# Altium footprint library V1.PcbLib: 22 footprints (part 1 of 2)
Each footprint in its own frame and in the unit in brackets; x right, y up, seen from the top. Pads: shape width x height; smd on the part's side, far side on the other; paste and mask are expansions set on the pad; w line width, h text height; cw(c..) or ccw(c..) is an arc to the next point about the centre after c.
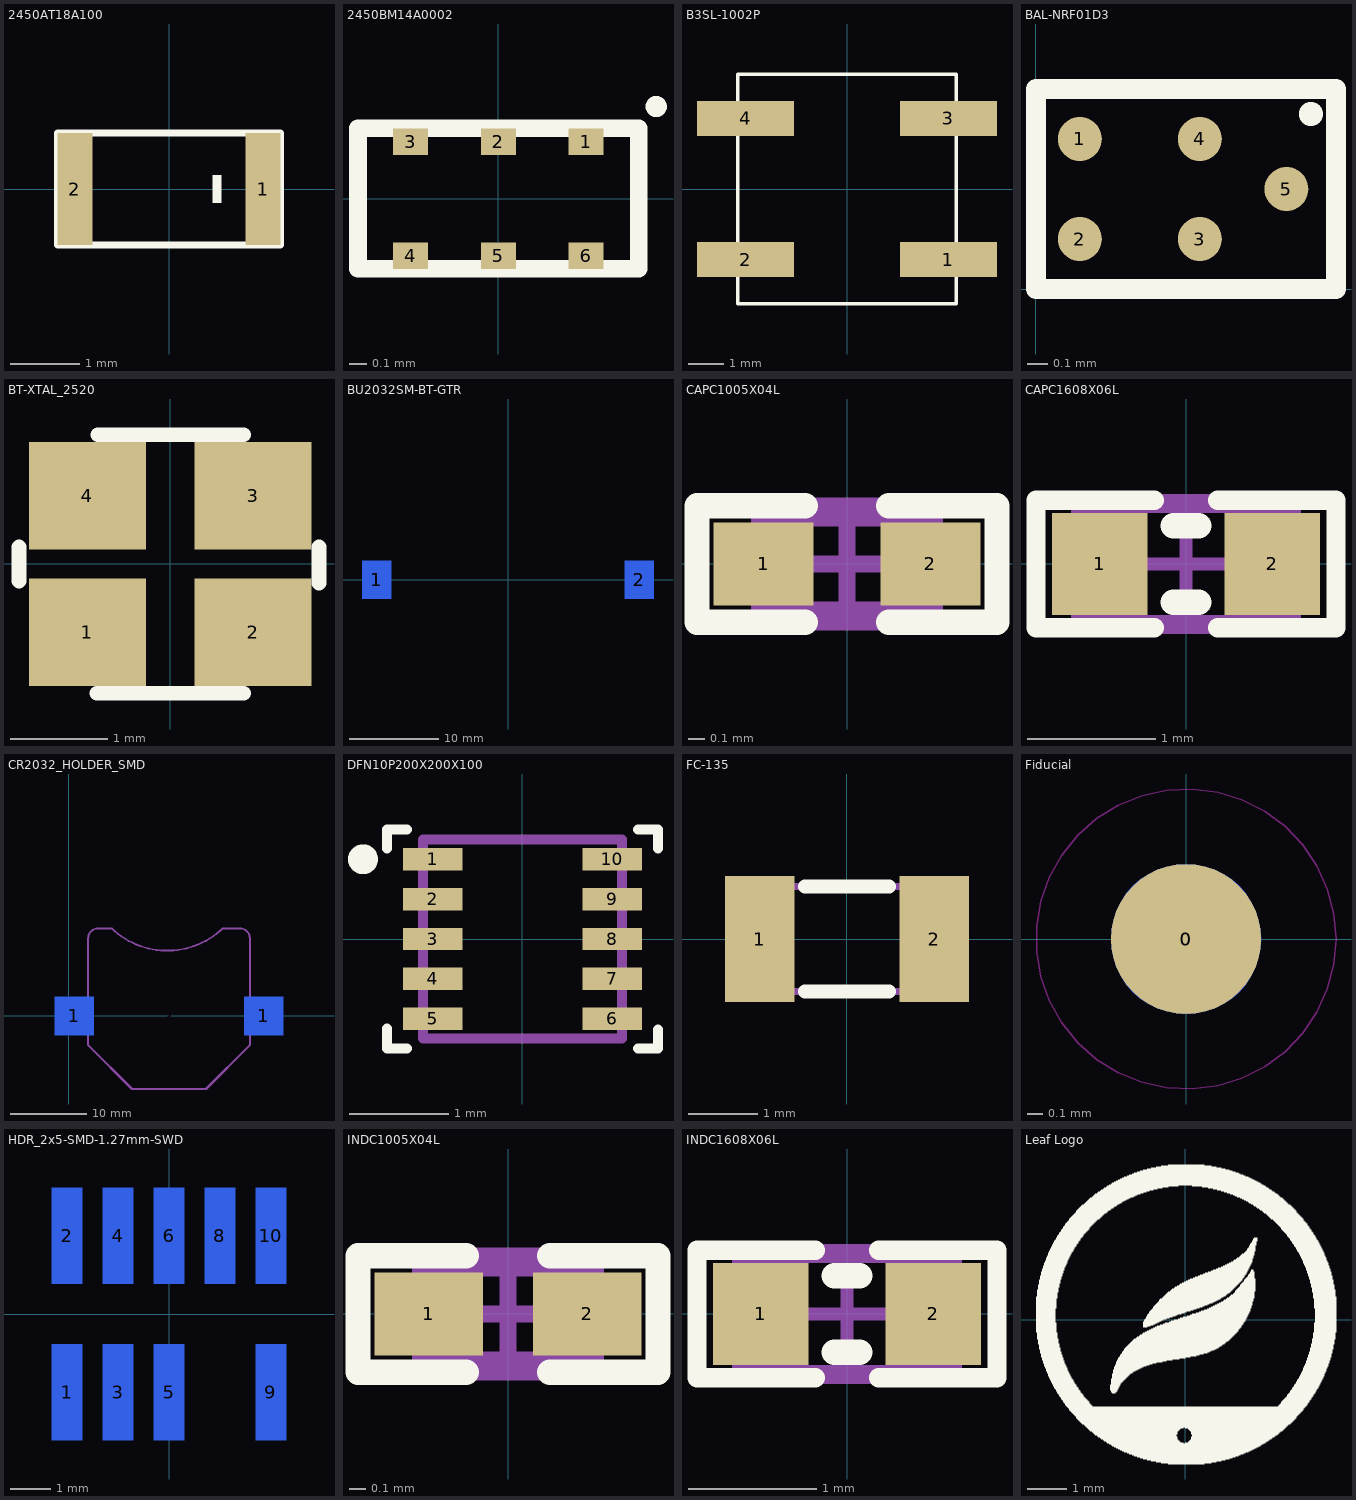
[diagram p0: the footprints below, top view; thin cyan lines are the x and y axes]

## 2450AT18A100 [mm]
pads (2):
  rect 0.5x1.6 smd: 1(1.35,0) 2(-1.35,0)
Top Overlay:
  rectangle: 0.625,-0.2 0.75,0.2
  lines w0.1: -1.6,-0.8 -1.6,0.8 1.6,0.8 1.6,-0.8 -1.6,-0.8
3D body: height 1.25, standoff 0, extent -1,-0.8 1,0.8
3D body: height 1.3, standoff 0, extent -1.7,-0.9 -1,0.9
3D body: height 1.3, standoff 0, extent 1,-0.9 1.65,0.9

## 2450BM14A0002 [mm]
pads (6):
  rect 0.2x0.15 smd: 1(0.5,0.325) 2(0,0.325) 3(-0.5,0.325) 4(-0.5,-0.325) 5(0,-0.325) 6(0.5,-0.325)
Top Overlay:
  circle w0.1: c0.9,0.525 r0.01
  lines w0.1: -0.8,-0.4 -0.8,0.4 0.8,0.4 0.8,-0.4 -0.8,-0.4
3D body: height 0.6, standoff 0, extent -0.8,-0.4 0.8,0.4

## B3SL-1002P [mm]
pads (4):
  rect 2.75x1 smd: 1(2.875,-2) 2(-2.875,-2) 3(2.875,2) 4(-2.875,2)
Top Overlay:
  lines w0.1: -3.1,-3.25 3.1,-3.25 3.1,3.25 -3.1,3.25 -3.1,-3.25
3D body: height 2.5, standoff 0, extent -3.125,-3.25 3.125,3.25
3D body: height 3.4, standoff 2.5, extent -1.24,-1.248 1.25,1.248

## BAL-NRF01D3 [mm]
pads (5):
  round 0.22 smd: 1(0.219,0.75) 2(0.219,0.25) 3(0.819,0.25) 4(0.819,0.75) 5(1.252,0.5)
Top Overlay:
  circle w0.1: c1.375,0.875 r0.01
  lines w0.1: 0,0 0,1 1.5,1 1.5,0 0,0
3D body: height 0.43, standoff 0, extent 0,0 1.5,1

## BT-XTAL_2520 [mm]
pads (4):
  rect 1.2x1.1 smd: 1(-0.85,-0.7) 2(0.85,-0.7) 3(0.85,0.7) 4(-0.85,0.7)
Top Overlay:
  lines w0.152: -1.55,-0.175 -1.55,0.175 ; -0.75,-1.325 0.75,-1.325 ; -0.74,1.325 0.75,1.325 ; 1.525,-0.195 1.525,0.175
3D body: height 0.56, standoff 0.15, extent -1.05,-0.8 1.05,0.8
3D body: height 0.56, standoff 0, extent -1.25,-1 1.27,1

## BU2032SM-BT-GTR [mm]
pads (2):
  rect 3.2x4.2 smd far side: 1(-14.65,0) 2(14.65,0)
Bottom Overlay:
  lines w0.254: -15.25,5 -14.025,5 ; -14.625,4.4 -14.625,5.625 ; 14.125,5.375 15.35,5.375
3D body: height 5.3, standoff 0, extent -16,-8 16,8

## CAPC1005X04L [mm]
pads (2):
  rect 0.6x0.5 smd: 1(-0.5,0) 2(0.5,0)
Top Overlay:
  lines w0.152: -0.25,-0.35 -0.9,-0.35 -0.9,0.35 -0.25,0.35 ; 0.25,-0.35 0.9,-0.35 0.9,0.35 0.25,0.35
Mechanical 13:
  lines w0.1: -0.525,-0.275 0.525,-0.275 0.525,0.275 -0.525,0.275 -0.525,-0.275
Mechanical 15:
  lines w0.1: -0.275,0 0.275,0 ; 0,-0.275 0,0.275 ; -0.9,-0.35 -0.9,0.35 0.9,0.35 0.9,-0.35 -0.9,-0.35
3D body: height 0.5, standoff -0.01, extent -0.508,-0.254 0.508,0.254

## CAPC1608X06L [mm]
pads (2):
  rect 0.75x0.8 smd: 1(-0.675,0) 2(0.675,0)
Top Overlay:
  lines w0.152: -0.25,-0.5 -1.175,-0.5 -1.175,0.5 -0.25,0.5 ; 0.25,-0.5 1.175,-0.5 1.175,0.5 0.25,0.5
  lines w0.2: -0.1,-0.3 0.1,-0.3 ; -0.1,0.3 0.1,0.3
Mechanical 13:
  lines w0.1: -0.85,-0.45 -0.85,0.45 0.85,0.45 0.85,-0.45 -0.85,-0.45
Mechanical 15:
  lines w0.1: -0.45,0 0.45,0 ; 0,-0.45 0,0.45 ; -1.175,-0.5 1.175,-0.5 1.175,0.5 -1.175,0.5 -1.175,-0.5
3D body: height 0.8, standoff 0, extent -0.8,-0.43 0.8,0.43

## CR2032_HOLDER_SMD [mm]
pads (3):
  rect 5.08x5.08 smd far side: 1(0.731,0) 1(25.431,0)
  round 18 on Bottom Solder paste+0: 2(13.081,0)
Mechanical 3:
  lines w0.254: 8.636,-9.525 17.907,-9.525 23.622,-3.81 23.622,10.16 ccw(c22.352,10.16) 22.352,11.43 20.066,11.43 ; 8.89,-9.525 8.255,-9.525 2.54,-3.81 2.54,10.16 cw(c3.81,10.16) 3.81,11.43 5.588,11.43 ccw(c12.848,19.072) 20.108,11.43
3D body: height 3.96, standoff 0, extent -2.286,-9.779 28.448,10.274

## DFN10P200X200X100 [mm]
pads (10):
  rect 0.6x0.225 smd: 1(-0.9,0.8) 2(-0.9,0.4) 3(-0.9,0) 4(-0.9,-0.4) 5(-0.9,-0.8) 6(0.9,-0.8) 7(0.9,-0.4) 8(0.9,0) 9(0.9,0.4) 10(0.9,0.8)
Top Overlay:
  circle w0.2: c-1.6,0.8 r0.05
  lines w0.1: -1.36,-1.1 -1.16,-1.1 ; -1.36,-1.08 -1.36,-0.9 ; -1.36,0.91 -1.36,1.08 ; -1.36,1.1 -1.16,1.1 ; 1.16,-1.1 1.36,-1.1 ; 1.16,1.1 1.36,1.1 ; 1.36,-1.08 1.36,-0.91 ; 1.36,0.91 1.36,1.08
Mechanical 13:
  lines w0.1: -1,-1 1,-1 1,1 -1,1 -1,-1
3D body: height 1, standoff 0, extent -1,-1 1,1

## FC-135 [mm]
pads (2):
  rect 1x1.8 smd: 1(-1.25,0) 2(1.25,0)
Top Overlay:
  lines w0.2: -0.6,-0.75 0.6,-0.75 ; -0.6,0.75 0.6,0.75
Mechanical 3:
  lines w0.1: -1.6,-0.55 cw(c-1.6,-0.75) -1.4,-0.75 1.4,-0.75 cw(c1.6,-0.75) 1.6,-0.55 1.6,0.55 cw(c1.6,0.75) 1.4,0.75 -1.4,0.75 cw(c-1.6,0.75) -1.6,0.55 -1.6,-0.55
3D body: height 0.81, standoff 0, extent -1.6,-0.75 1.6,0.75
3D body: height 0.81, standoff 0.15, extent -1.2,-0.6 1.2,0.6

## Fiducial [mm]
pads (2):
  round 1 smd far side paste-10 mask+0.5: 0(0,0)
  round 1 smd paste-10 mask+0.5: 0(0,0)
Keep-Out Layer:
  circle w0.01: c0,0 r1

## HDR_2x5-SMD-1.27mm-SWD [mm]
pads (9):
  rect 0.76x2.4 smd far side: 1(-2.54,-1.95) 2(-2.54,1.95) 3(-1.27,-1.95) 4(-1.27,1.95) 5(0,-1.95) 6(0,1.95) 8(1.27,1.95) 9(2.54,-1.95) 10(2.54,1.95)
Bottom Overlay:
  lines w0.3: -3.175,-0.45 -1.9,-0.45 -1.9,-3.15 ; -3.175,-3.15 3.175,-3.15 3.175,3.15 -3.175,3.15 -3.175,-3.15
  text "1" at -3.581,-1.499 h1.02
3D body: height 4.33, standoff 0.01, extent -3.165,-2.921 3.185,2.921

## INDC1005X04L [mm]
pads (2):
  rect 0.65x0.5 smd: 1(-0.475,0) 2(0.475,0)
Top Overlay:
  lines w0.152: -0.25,-0.35 -0.9,-0.35 -0.9,0.35 -0.25,0.35 ; 0.25,-0.35 0.9,-0.35 0.9,0.35 0.25,0.35
Mechanical 13:
  lines w0.1: -0.525,-0.275 0.525,-0.275 0.525,0.275 -0.525,0.275 -0.525,-0.275
Mechanical 15:
  lines w0.1: -0.275,0 0.275,0 ; 0,-0.275 0,0.275 ; -0.9,-0.35 0.9,-0.35 0.9,0.35 -0.9,0.35 -0.9,-0.35
3D body: height 0.5, standoff 0, extent -0.5,-0.3 0.5,0.3

## INDC1608X06L [mm]
pads (2):
  rect 0.75x0.8 smd: 1(-0.675,0) 2(0.675,0)
Top Overlay:
  lines w0.152: -0.25,-0.5 -1.175,-0.5 -1.175,0.5 -0.25,0.5 ; 0.25,-0.5 1.175,-0.5 1.175,0.5 0.25,0.5
  lines w0.2: -0.1,-0.3 0.1,-0.3 ; -0.1,0.3 0.1,0.3
Mechanical 13:
  lines w0.1: -0.85,-0.45 -0.85,0.45 0.85,0.45 0.85,-0.45 -0.85,-0.45
Mechanical 15:
  lines w0.1: -0.45,0 0.45,0 ; 0,-0.45 0,0.45 ; -1.175,-0.5 1.175,-0.5 1.175,0.5 -1.175,0.5 -1.175,-0.5
3D body: height 0.8, standoff 0, extent -0.8,-0.475 0.8,0.475

## Leaf Logo [mm]
Top Overlay:
  drawing of 751 lines, arcs and shapes, not listed